# EAGLE library part BQ51050B (library texas-instruments)
High-Efficiency Qi v1.1-Compliant Wireless Power Receiver and Battery Charger Source: http://www.tij.co.jp/jp/lit/ds/symlink/bq51050b.pdf
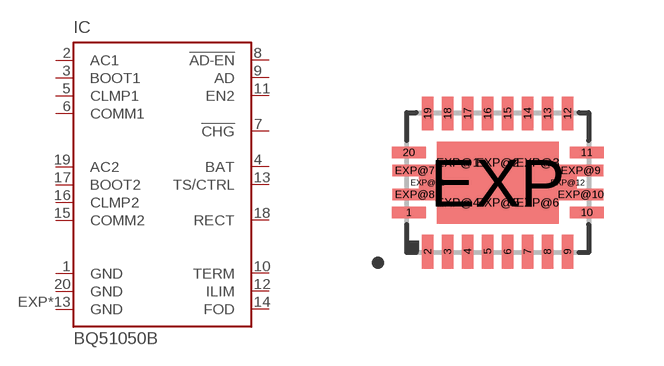
[diagram p0: symbol with the pads of QFN20_3,5X4,5; footprint QFN20_3,5X4,5]

Designator prefix IC

## BQ51050B  [QFN20_3,5X4,5]
1  GND  pwr
2  AC1  in
3  BOOT1  out
4  BAT  out
5  CLMP1  out
6  COMM1  out
7  !CHG!  out
8  !AD-EN!  out
9  AD  in
10  TERM  in
11  EN2  in
12  ILIM
13  TS/CTRL  in
14  FOD  in
15  COMM2  out
16  CLMP2  out
17  BOOT2  out
18  RECT  out
19  AC2  in
20  GND  pwr
EXP  GND  pwr
EXP@1  GND  pwr
EXP@2  GND  pwr
EXP@3  GND  pwr
EXP@4  GND  pwr
EXP@5  GND  pwr
EXP@6  GND  pwr
EXP@7  GND  pwr
EXP@8  GND  pwr
EXP@9  GND  pwr
EXP@10  GND  pwr
EXP@11  GND  pwr
EXP@12  GND  pwr

## Footprint QFN20_3,5X4,5 (pad centres in mm)
smd 0.85 x 0.28: 1 -2.225,-0.75; 10 2.225,-0.75; 11 2.225,0.75; 20 -2.225,0.75
smd 0.28 x 0.85: 2 -1.75,-1.725; 3 -1.25,-1.725; 4 -0.75,-1.725; 5 -0.25,-1.725; 6 0.25,-1.725; 7 0.75,-1.725; 8 1.25,-1.725; 9 1.75,-1.725; 12 1.75,1.725; 13 1.25,1.725; 14 0.75,1.725; 15 0.25,1.725; 16 -0.25,1.725; 17 -0.75,1.725; 18 -1.25,1.725; 19 -1.75,1.725
smd 3.05 x 2.05: EXP 0,0
drill 0.3 pad 0.6: EXP@1 -1,0.5; EXP@2 0,0.5; EXP@3 1,0.5; EXP@4 -1,-0.5; EXP@5 0,-0.5; EXP@6 1,-0.5
smd 1.125 x 0.28: EXP@7 -2.075,0.3; EXP@8 -2.075,-0.3; EXP@9 2.075,0.3; EXP@10 2.075,-0.3
smd 0.45 x 0.4: EXP@11 -1.75,0; EXP@12 1.75,0